# Altium footprint library SOT95P280X125-6L30N.PcbLib: 1 footprints
Each footprint in its own frame and in the unit in brackets; x right, y up, seen from the top. Pads: shape width x height; smd on the part's side, far side on the other; paste and mask are expansions set on the pad; w line width, h text height; cw(c..) or ccw(c..) is an arc to the next point about the centre after c.
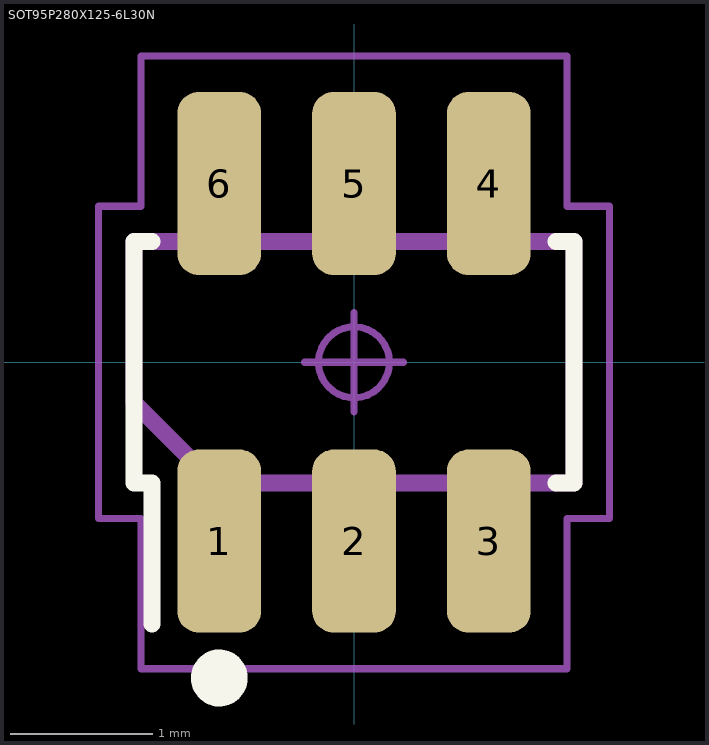
[diagram p0: the footprint, top view; thin cyan lines are the x and y axes]

## SOT95P280X125-6L30N [mm] "Small Outline Transistor (SOT23), 0.95 mm pitch; 6 pin, 2.90 mm L X 1.60 mm W X 1.25 mm H body"
height 1.25
pads (6):
  rrect51% 0.59x1.29 smd: 1(-0.95,-1.26) 2(0,-1.26) 3(0.95,-1.26) 4(0.95,1.26) 5(0,1.26) 6(-0.95,1.26)
Top Overlay:
  circle w0.2: c-0.95,-2.225 r0.1
  lines w0.12: -1.425,-1.845 -1.425,-0.85 -1.55,-0.85 -1.55,0.85 -1.425,0.85 ; 1.425,-0.85 1.55,-0.85 1.55,0.85 1.425,0.85
Mechanical 11:
  lines w0.12: -1.55,-0.283 -1.55,0.85 1.55,0.85 1.55,-0.85 -0.983,-0.85 -1.55,-0.283
Mechanical 15:
  circle w0.05: c0,0 r0.25
  lines w0.05: -0.35,0 0.35,0 ; 0,-0.35 0,0.35 ; -1.8,-1.1 -1.8,1.1 -1.5,1.1 -1.5,2.16 1.5,2.16 1.5,1.1 1.8,1.1 1.8,-1.1 1.5,-1.1 1.5,-2.16 -1.5,-2.16 -1.5,-1.1 -1.8,-1.1
3D body: height 1.45, standoff 0, extent -1.45,-1.4 1.45,1.4